# Altium footprint library QFP_Rect_80P_Side_N.PcbLib: 4 footprints
Each footprint in its own frame and in the unit in brackets; x right, y up, seen from the top. Pads: shape width x height; smd on the part's side, far side on the other; paste and mask are expansions set on the pad; w line width, h text height; cw(c..) or ccw(c..) is an arc to the next point about the centre after c.
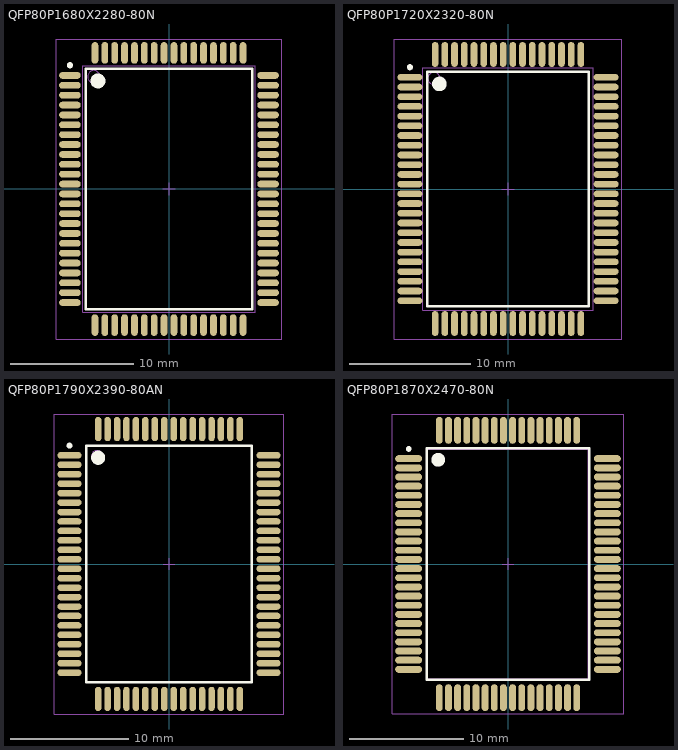
[diagram p0: the footprints below, top view; thin cyan lines are the x and y axes]

## QFP80P1680X2280-80N [mm] "80-Pin Quad Flat Pack Rectangular 0.8 mm Pitch"
height 3.05
pads (80):
  oval 1.75x0.55 smd: 1(-8.025,9.2) 2(-8.025,8.4) 3(-8.025,7.6) 4(-8.025,6.8) 5(-8.025,6) 6(-8.025,5.2) 7(-8.025,4.4) 8(-8.025,3.6) 9(-8.025,2.8) 10(-8.025,2) 11(-8.025,1.2) 12(-8.025,0.4) 13(-8.025,-0.4) 14(-8.025,-1.2) 15(-8.025,-2) 16(-8.025,-2.8) 17(-8.025,-3.6) 18(-8.025,-4.4) 19(-8.025,-5.2) 20(-8.025,-6) 21(-8.025,-6.8) 22(-8.025,-7.6) 23(-8.025,-8.4) 24(-8.025,-9.2) 41(8.025,-9.2) 42(8.025,-8.4) 43(8.025,-7.6) 44(8.025,-6.8) 45(8.025,-6) 46(8.025,-5.2) 47(8.025,-4.4) 48(8.025,-3.6) 49(8.025,-2.8) 50(8.025,-2) 51(8.025,-1.2) 52(8.025,-0.4) 53(8.025,0.4) 54(8.025,1.2) 55(8.025,2) 56(8.025,2.8) 57(8.025,3.6) 58(8.025,4.4) 59(8.025,5.2) 60(8.025,6) 61(8.025,6.8) 62(8.025,7.6) 63(8.025,8.4) 64(8.025,9.2)
  oval 0.55x1.75 smd: 25(-6,-11.025) 26(-5.2,-11.025) 27(-4.4,-11.025) 28(-3.6,-11.025) 29(-2.8,-11.025) 30(-2,-11.025) 31(-1.2,-11.025) 32(-0.4,-11.025) 33(0.4,-11.025) 34(1.2,-11.025) 35(2,-11.025) 36(2.8,-11.025) 37(3.6,-11.025) 38(4.4,-11.025) 39(5.2,-11.025) 40(6,-11.025) 65(6,11.025) 66(5.2,11.025) 67(4.4,11.025) 68(3.6,11.025) 69(2.8,11.025) 70(2,11.025) 71(1.2,11.025) 72(0.4,11.025) 73(-0.4,11.025) 74(-1.2,11.025) 75(-2,11.025) 76(-2.8,11.025) 77(-3.6,11.025) 78(-4.4,11.025) 79(-5.2,11.025) 80(-6,11.025)
Top Overlay:
  circle w0.25: c-8.025,10.025 r0.125
  circle w0.6: c-5.75,8.75 r0.3
  lines w0.2: -6.75,-9.75 -6.75,9.75 6.75,9.75 6.75,-9.75 -6.75,-9.75
Mechanical 13:
  circle w0.1: c-6.1,9.1 r0.5
  lines w0.1: -7,-10 -7,10 7,10 7,-10 -7,-10
Mechanical 15:
  lines w0.1: -0.5,0 0.5,0 ; 0,-0.5 0,0.5 ; -9.15,-12.15 -9.15,12.15 9.15,12.15 9.15,-12.15 -9.15,-12.15
3D body: height 3.05, standoff 0, extent -7,-10 7,10

## QFP80P1720X2320-80N [mm] "QFP, 80-Leads, Body 20x14mm, Pitch 0.8mm, IPC Medium Density"
height 2.45
pads (80):
  oval 2.05x0.55 smd: 1(-8.075,9.2) 2(-8.075,8.4) 3(-8.075,7.6) 4(-8.075,6.8) 5(-8.075,6) 6(-8.075,5.2) 7(-8.075,4.4) 8(-8.075,3.6) 9(-8.075,2.8) 10(-8.075,2) 11(-8.075,1.2) 12(-8.075,0.4) 13(-8.075,-0.4) 14(-8.075,-1.2) 15(-8.075,-2) 16(-8.075,-2.8) 17(-8.075,-3.6) 18(-8.075,-4.4) 19(-8.075,-5.2) 20(-8.075,-6) 21(-8.075,-6.8) 22(-8.075,-7.6) 23(-8.075,-8.4) 24(-8.075,-9.2) 41(8.075,-9.2) 42(8.075,-8.4) 43(8.075,-7.6) 44(8.075,-6.8) 45(8.075,-6) 46(8.075,-5.2) 47(8.075,-4.4) 48(8.075,-3.6) 49(8.075,-2.8) 50(8.075,-2) 51(8.075,-1.2) 52(8.075,-0.4) 53(8.075,0.4) 54(8.075,1.2) 55(8.075,2) 56(8.075,2.8) 57(8.075,3.6) 58(8.075,4.4) 59(8.075,5.2) 60(8.075,6) 61(8.075,6.8) 62(8.075,7.6) 63(8.075,8.4) 64(8.075,9.2)
  oval 0.55x2.05 smd: 25(-6,-11.075) 26(-5.2,-11.075) 27(-4.4,-11.075) 28(-3.6,-11.075) 29(-2.8,-11.075) 30(-2,-11.075) 31(-1.2,-11.075) 32(-0.4,-11.075) 33(0.4,-11.075) 34(1.2,-11.075) 35(2,-11.075) 36(2.8,-11.075) 37(3.6,-11.075) 38(4.4,-11.075) 39(5.2,-11.075) 40(6,-11.075) 65(6,11.075) 66(5.2,11.075) 67(4.4,11.075) 68(3.6,11.075) 69(2.8,11.075) 70(2,11.075) 71(1.2,11.075) 72(0.4,11.075) 73(-0.4,11.075) 74(-1.2,11.075) 75(-2,11.075) 76(-2.8,11.075) 77(-3.6,11.075) 78(-4.4,11.075) 79(-5.2,11.075) 80(-6,11.075)
Top Overlay:
  circle w0.6: c-5.65,8.65 r0.3
  circle w0.25: c-8.075,10.025 r0.125
  lines w0.2: -6.65,-9.65 6.65,-9.65 6.65,9.65 -6.65,9.65 -6.65,-9.65
Mechanical 13:
  circle w0.1: c-6.1,9.1 r0.5
  lines w0.1: -7,-10 7,-10 7,10 -7,10 -7,-10
Mechanical 15:
  lines w0.1: -0.5,0 0.5,0 ; 0,-0.5 0,0.5 ; -9.35,-12.35 9.35,-12.35 9.35,12.35 -9.35,12.35 -9.35,-12.35
3D body: height 2.45, standoff 0, extent -7,-10 7,10

## QFP80P1790X2390-80AN [mm] "QFP, 80-Leads, Body 20x14mm, Pitch 0.8mm, IPC Medium Density"
height 3.25
pads (80):
  oval 2.05x0.55 smd: 1(-8.425,9.2) 2(-8.425,8.4) 3(-8.425,7.6) 4(-8.425,6.8) 5(-8.425,6) 6(-8.425,5.2) 7(-8.425,4.4) 8(-8.425,3.6) 9(-8.425,2.8) 10(-8.425,2) 11(-8.425,1.2) 12(-8.425,0.4) 13(-8.425,-0.4) 14(-8.425,-1.2) 15(-8.425,-2) 16(-8.425,-2.8) 17(-8.425,-3.6) 18(-8.425,-4.4) 19(-8.425,-5.2) 20(-8.425,-6) 21(-8.425,-6.8) 22(-8.425,-7.6) 23(-8.425,-8.4) 24(-8.425,-9.2) 41(8.425,-9.2) 42(8.425,-8.4) 43(8.425,-7.6) 44(8.425,-6.8) 45(8.425,-6) 46(8.425,-5.2) 47(8.425,-4.4) 48(8.425,-3.6) 49(8.425,-2.8) 50(8.425,-2) 51(8.425,-1.2) 52(8.425,-0.4) 53(8.425,0.4) 54(8.425,1.2) 55(8.425,2) 56(8.425,2.8) 57(8.425,3.6) 58(8.425,4.4) 59(8.425,5.2) 60(8.425,6) 61(8.425,6.8) 62(8.425,7.6) 63(8.425,8.4) 64(8.425,9.2)
  oval 0.55x2.05 smd: 25(-6,-11.425) 26(-5.2,-11.425) 27(-4.4,-11.425) 28(-3.6,-11.425) 29(-2.8,-11.425) 30(-2,-11.425) 31(-1.2,-11.425) 32(-0.4,-11.425) 33(0.4,-11.425) 34(1.2,-11.425) 35(2,-11.425) 36(2.8,-11.425) 37(3.6,-11.425) 38(4.4,-11.425) 39(5.2,-11.425) 40(6,-11.425) 65(6,11.425) 66(5.2,11.425) 67(4.4,11.425) 68(3.6,11.425) 69(2.8,11.425) 70(2,11.425) 71(1.2,11.425) 72(0.4,11.425) 73(-0.4,11.425) 74(-1.2,11.425) 75(-2,11.425) 76(-2.8,11.425) 77(-3.6,11.425) 78(-4.4,11.425) 79(-5.2,11.425) 80(-6,11.425)
Top Overlay:
  circle w0.6: c-6,9 r0.3
  circle w0.25: c-8.425,10.025 r0.125
  lines w0.2: -7,-10 7,-10 7,10 -7,10 -7,-10
Mechanical 13:
  circle w0.1: c-6.1,9.1 r0.5
  lines w0.1: -7,-10 7,-10 7,10 -7,10 -7,-10
Mechanical 15:
  lines w0.1: -0.5,0 0.5,0 ; 0,-0.5 0,0.5 ; -9.7,-12.7 9.7,-12.7 9.7,12.7 -9.7,12.7 -9.7,-12.7
3D body: height 3.25, standoff 0, extent -7,-10 7,10

## QFP80P1870X2470-80N [mm] "QFP, 80-Leads, Body 20x14mm, Pitch 0.8mm, IPC Medium Density"
height 2.3
pads (80):
  oval 2.35x0.6 smd: 1(-8.675,9.2) 2(-8.675,8.4) 3(-8.675,7.6) 4(-8.675,6.8) 5(-8.675,6) 6(-8.675,5.2) 7(-8.675,4.4) 8(-8.675,3.6) 9(-8.675,2.8) 10(-8.675,2) 11(-8.675,1.2) 12(-8.675,0.4) 13(-8.675,-0.4) 14(-8.675,-1.2) 15(-8.675,-2) 16(-8.675,-2.8) 17(-8.675,-3.6) 18(-8.675,-4.4) 19(-8.675,-5.2) 20(-8.675,-6) 21(-8.675,-6.8) 22(-8.675,-7.6) 23(-8.675,-8.4) 24(-8.675,-9.2) 41(8.675,-9.2) 42(8.675,-8.4) 43(8.675,-7.6) 44(8.675,-6.8) 45(8.675,-6) 46(8.675,-5.2) 47(8.675,-4.4) 48(8.675,-3.6) 49(8.675,-2.8) 50(8.675,-2) 51(8.675,-1.2) 52(8.675,-0.4) 53(8.675,0.4) 54(8.675,1.2) 55(8.675,2) 56(8.675,2.8) 57(8.675,3.6) 58(8.675,4.4) 59(8.675,5.2) 60(8.675,6) 61(8.675,6.8) 62(8.675,7.6) 63(8.675,8.4) 64(8.675,9.2)
  oval 0.6x2.35 smd: 25(-6,-11.675) 26(-5.2,-11.675) 27(-4.4,-11.675) 28(-3.6,-11.675) 29(-2.8,-11.675) 30(-2,-11.675) 31(-1.2,-11.675) 32(-0.4,-11.675) 33(0.4,-11.675) 34(1.2,-11.675) 35(2,-11.675) 36(2.8,-11.675) 37(3.6,-11.675) 38(4.4,-11.675) 39(5.2,-11.675) 40(6,-11.675) 65(6,11.675) 66(5.2,11.675) 67(4.4,11.675) 68(3.6,11.675) 69(2.8,11.675) 70(2,11.675) 71(1.2,11.675) 72(0.4,11.675) 73(-0.4,11.675) 74(-1.2,11.675) 75(-2,11.675) 76(-2.8,11.675) 77(-3.6,11.675) 78(-4.4,11.675) 79(-5.2,11.675) 80(-6,11.675)
Top Overlay:
  circle w0.6: c-6.1,9.1 r0.3
  circle w0.25: c-8.675,10.05 r0.125
  lines w0.2: -7.1,-10.1 7.1,-10.1 7.1,10.1 -7.1,10.1 -7.1,-10.1
Mechanical 13:
  circle w0.1: c-6.1,9.1 r0.5
  lines w0.1: -7,-10 7,-10 7,10 -7,10 -7,-10
Mechanical 15:
  lines w0.1: -0.5,0 0.5,0 ; 0,-0.5 0,0.5 ; -10.1,-13.1 10.1,-13.1 10.1,13.1 -10.1,13.1 -10.1,-13.1
3D body: height 2.3, standoff 0, extent -7,-10 7,10